# EAGLE library part FDS4935A (library user_tr_fet_igbt)
デュアルPchMOSFET on抵抗19mΩ DS_max電圧-30v GS_max電圧20v 秋月電子通商通販コード[I-01246]
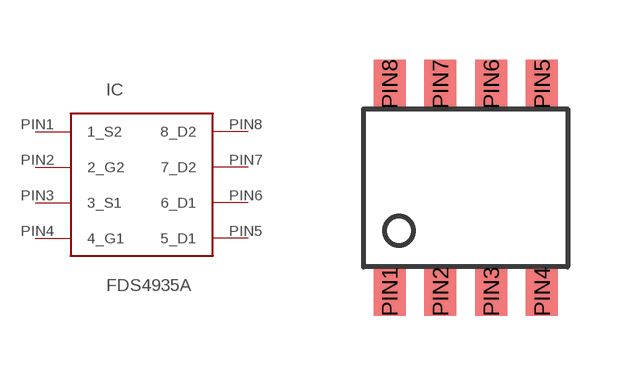
[diagram p1: symbol with the pads of SOP8; footprint SOP8]

Designator prefix IC

## FDS4935A  [SOP8]
PIN1  1_S2
PIN2  2_G2
PIN3  3_S1
PIN4  4_G1
PIN5  5_D1
PIN6  6_D1
PIN7  7_D2
PIN8  8_D2

## Footprint SOP8 (pad centres in mm)
時々SOICと表記されていることがある。 データシートを見て、半導体の幅を確認して問題ないか見ること 幅3.9mm
smd 0.8 x 1.2: PIN1 0.65,-4.57; PIN2 1.92,-4.57; PIN3 3.19,-4.57; PIN4 4.46,-4.57; PIN5 4.46,0.62; PIN6 3.19,0.62; PIN7 1.92,0.62; PIN8 0.65,0.62